# Altium footprint library DM3DSF.PcbLib: 1 footprints
Each footprint in its own frame and in the unit in brackets; x right, y up, seen from the top. Pads: shape width x height; smd on the part's side, far side on the other; paste and mask are expansions set on the pad; w line width, h text height; cw(c..) or ccw(c..) is an arc to the next point about the centre after c.
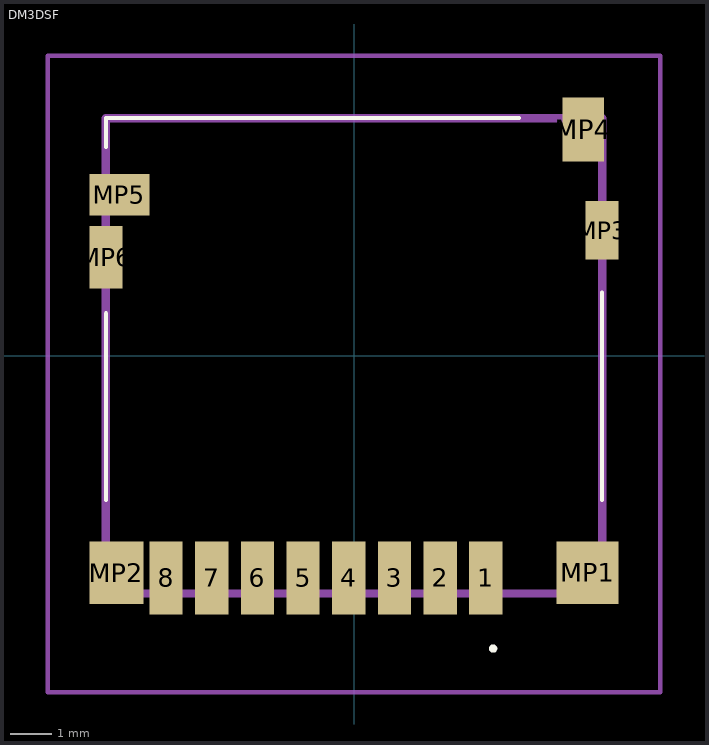
[diagram p0: the footprint, top view; thin cyan lines are the x and y axes]

## DM3DSF [mm]
pads (14):
  rect 0.8x1.75 smd: 1(3.175,-5.35) 2(2.075,-5.35) 3(0.975,-5.35) 4(-0.125,-5.35) 5(-1.225,-5.35) 6(-2.325,-5.35) 7(-3.425,-5.35) 8(-4.525,-5.35)
  rect 1.5x1.5 smd: MP1(5.625,-5.225)
  rect 1.3x1.5 smd: MP2(-5.725,-5.225)
  rect 0.8x1.4 smd: MP3(5.975,3.025)
  rect 1x1.55 smd: MP4(5.525,5.45)
  rect 1.45x1 smd: MP5(-5.65,3.875)
  rect 0.8x1.5 smd: MP6(-5.975,2.375)
Top Overlay:
  lines w0.1: -5.975,-3.475 -5.975,1.025 ; -5.975,5.025 -5.975,5.725 3.975,5.725 ; 5.975,-3.475 5.975,1.525 ; 3.35,-7.1 cw(c3.35,-7.05) 3.35,-7 ; 3.35,-7.1 3.35,-7.1 ; 3.35,-7.1 ccw(c3.35,-7.05) 3.35,-7 ; 3.35,-7 3.35,-7
Mechanical 15:
  lines w0.2: -5.975,-5.725 5.975,-5.725 5.975,5.725 -5.975,5.725 -5.975,-5.725
Mechanical 20:
  lines w0.1: -7.375,-8.1 7.375,-8.1 7.375,7.225 -7.375,7.225 -7.375,-8.1